# EAGLE library part L4931CD33 (library ST_Microelctronics_By_element14_Batch_1)
voltage regulators with inhibit
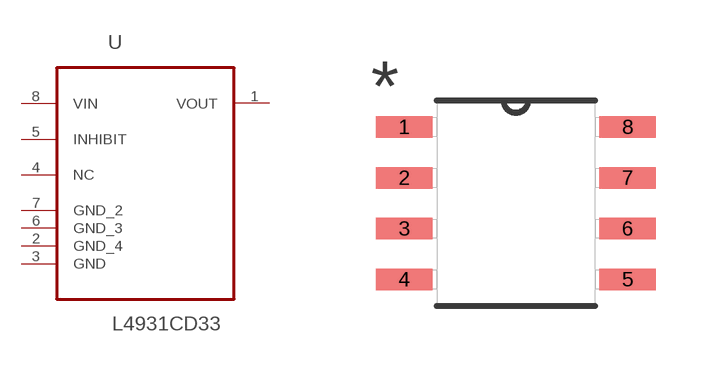
[diagram p33: symbol with the pads of SOIC127P600X175-8N; footprint SOIC127P600X175-8N]

Designator prefix U

## L4931CD33 (MPN: L4931CD33; OC_FARNELL: 1094211; OC_NEWARK: 26M0501; PACKAGE: SOIC-8; SUPPLIER: STMICROELECTRONICS)  [SOIC127P600X175-8N]
1  VOUT  out
2  GND_4  pas
3  GND  pas
4  NC  nc
5  INHIBIT  pas
6  GND_3  pas
7  GND_2  pas
8  VIN  pwr

## Footprint SOIC127P600X175-8N (pad centres in mm)
smd 1.422 x 0.533: 1 -2.794,1.905; 2 -2.794,0.635; 3 -2.794,-0.635; 4 -2.794,-1.905; 5 2.794,-1.905; 6 2.794,-0.635; 7 2.794,0.635; 8 2.794,1.905